# Altium schematic symbol library pporyzala-TI_Lighting.SchLib: 745 symbols (part 32 of 48)
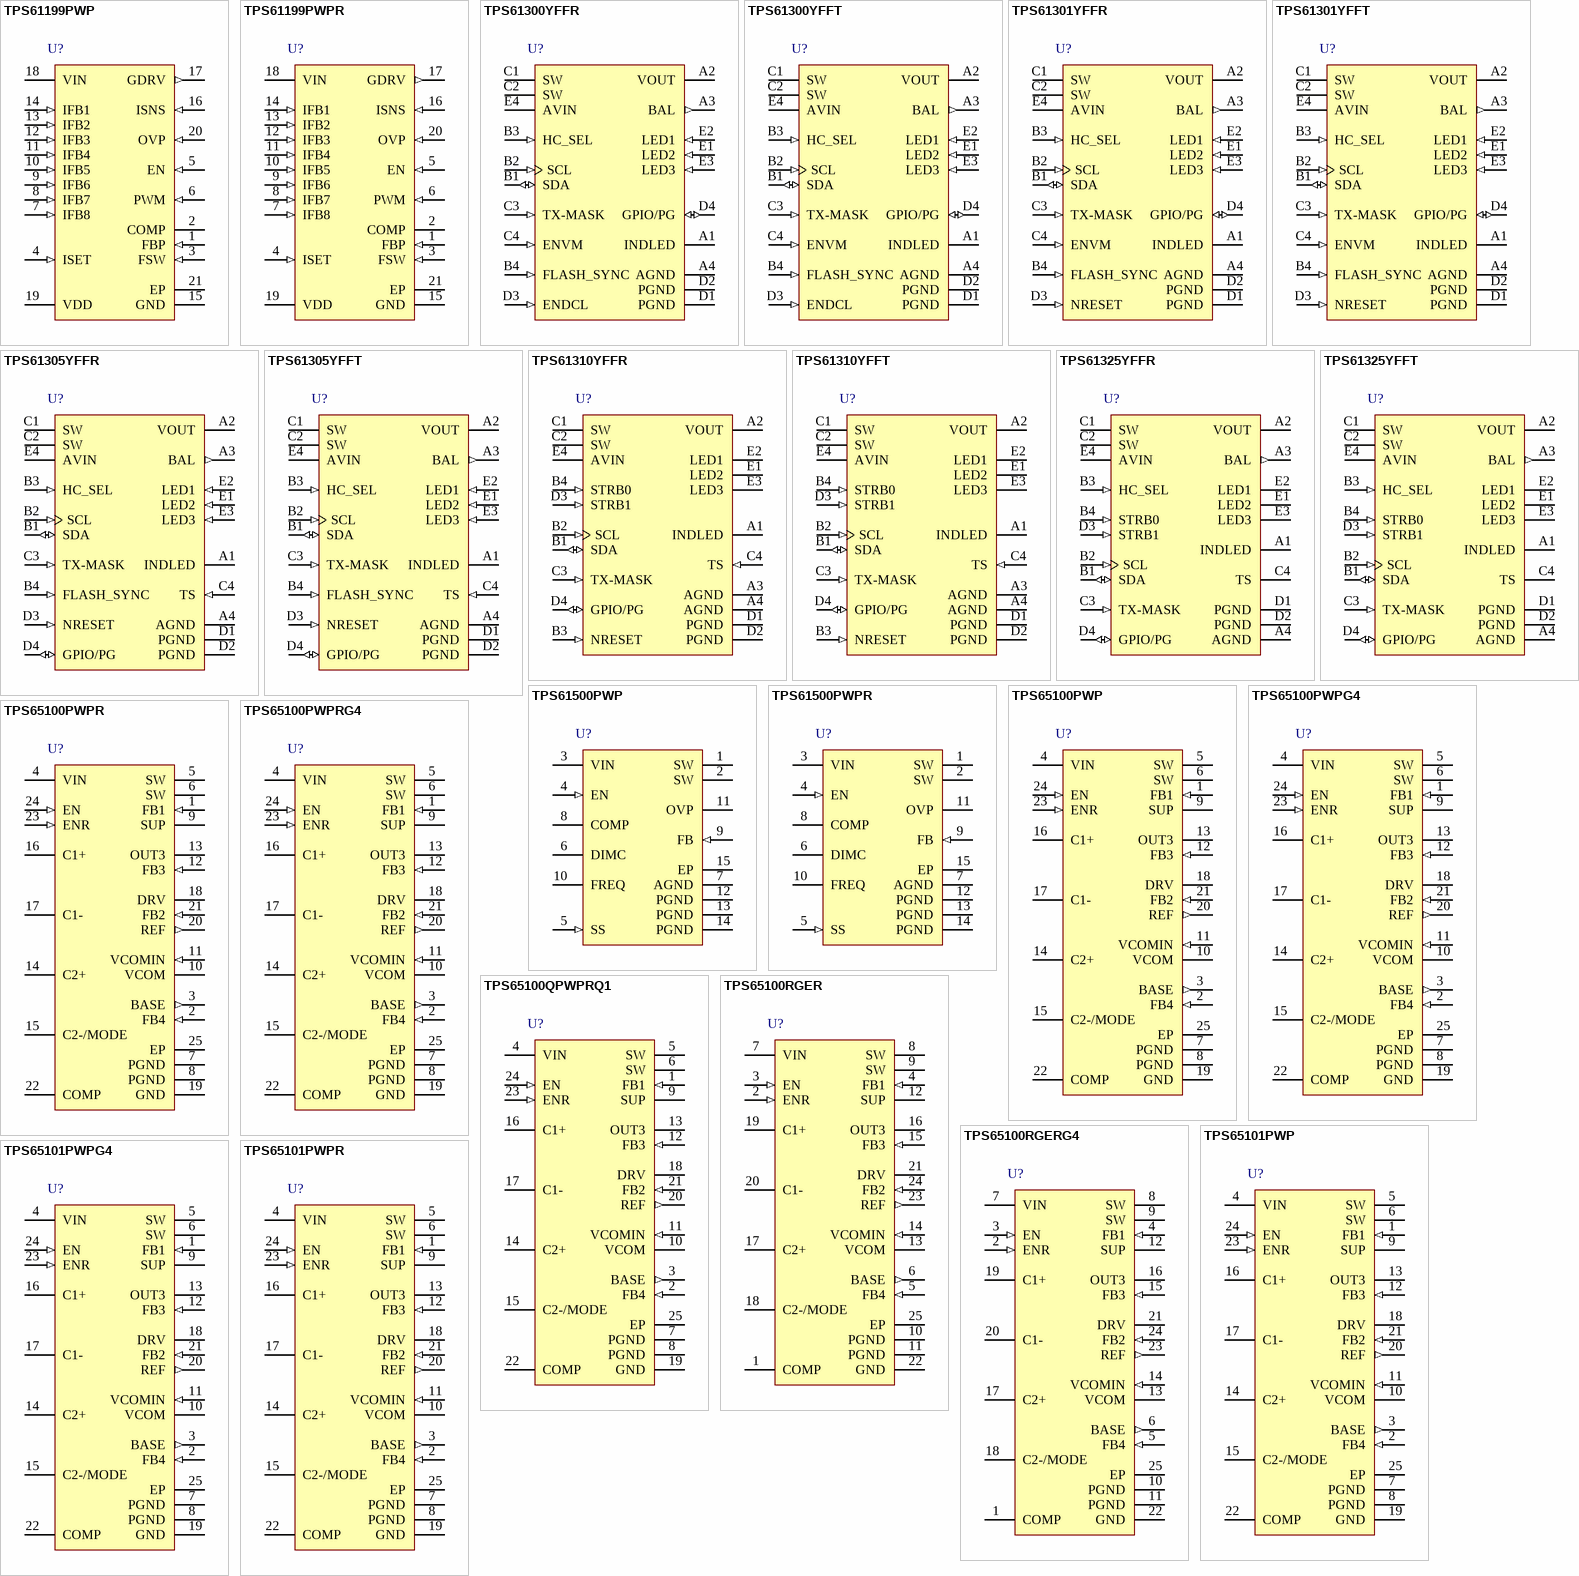
[diagram p62: symbols TPS61199PWP to TPS65101PWPR]

## TPS61310YFFT
designator U?
1.5 A Multiple LED Camera Flash Driver with I2C Compatible Interface, 2.5 to 5.5 V, -40 to 85 degC, 20-pin BGA (YFF20), Green (RoHS & no Sb/Br); Manufacturer: Texas Instruments; PartNumber: TPS61310YFFT; Dimming: TRUE; Iout(Max)(A): 1.5; Iq(Typ)(mA): 0.59; Rating: Catalog; SubFamily: White LED Driver; Switching Frequency(Max)(kHz): 2000; Topology: Boost; Vin(Max)(V): 5.5; Vin(Min)(V): 2.5; DatasheetVersion: SLVS978C; PackageVersion: 4207625-9/AJ; PackageReference: YFF20; PackageDescription: 20-Ball, Silicon Grid Array, Body Size 2.17 x 1.93 mm, Pitch 0.4 mm; Supplier 1: Digi-Key; Supplier Part Number 1: TPS61310YFFT-ND; Supplier 2: Newark; Supplier Part Number 2: 72R6649; Supplier 3: Mouser; Supplier Part Number 3: 595-TPS61310YFFT; Eco-Plan: Green (RoHS & no Sb/Br); Synchronous Rectification: TRUE; Mounting Technology: Surface Mount; ComponentLink1Description: Manufacturer URL; ComponentLink1URL: http://www.ti.com/; ComponentLink2Description: Datasheet; ComponentLink2URL: http://www.ti.com/general/docs/lit/getliterature.tsp?genericPartNumber=TPS61310&fileType=pdf; ComponentLink3Description: Package Specification; ComponentLink3URL: http://www.ti.com/lit/ds/symlink/tps61300.pdf
footprint TI-YFF20-2170X1928DE (BGA, 20-Balls, Body 2.17x1.928mm, Pitch 0.4mm)
pins: A1 INDLED (power) "This pin provides a constant current source to drive low VF LEDs. Connect to LED anode.", A2 VOUT (power) "This is the output voltage pin of the converter.", A3 AGND (power) "Analog ground.", A4 AGND (power) "Analog ground.", B1 SDA (io) "Serial interface address/data line. This pin must not be left floating and must be terminated.", B2 SCL (in) "Serial interface clock line. This pin must not be left floating and must be terminated.", B3 NRESET (in) "Master hardware reset input. NRESET = LOW: The device is forced in shutdown mode and the I2C control I/F and all internal control registers are reset. NRESET = HIGH: The device is operating normally under the control of the (See Datasheet)", B4 STRB0 (in) "LED1/2/3 enable logic input. This pin can be used to enable/disable the high-power LEDs connected to the device. STRB0 = LOW: LED1, LED2 and LED3 current regulators are turned off. STRB0 = HIGH: LED2, LED2 and LED3 current (See Datasheet)", C1 SW (power) "Inductor connection. Drain of the internal power MOSFET. Connect to the switched side of the inductor. SW is high impedance during shutdown.", C2 SW (power) "Inductor connection. Drain of the internal power MOSFET. Connect to the switched side of the inductor. SW is high impedance during shutdown.", C3 TX-MASK (in) "RF PA synchronization control input. Pulling this pin high turns the LED from flash to video light operation, thereby reducing almost instantaneously the peak current loading from the battery.", C4 TS (in) "NTC resistor connection. This pin can be used to monitor the LED temperature. Connect a 220k ohm NTC resistor from the TS input to ground. In case this functionality is not desired, the TS input should be tied to AVIN or (See Datasheet)", D1 PGND (power) "Power ground. Connect to AGND underneath IC.", D2 PGND (power) "Power ground. Connect to AGND underneath IC.", D3 STRB1 (in) "LED current level selection input. Pulling this input high disables the video light watchdog timer. STRB1 = LOW: flash mode is enabled. STRB1 = HIGH: video light mode is enabled.", D4 GPIO/PG (io) "This pin can either be configured as a general purpose input/output pin (GPIO) or either as an open-drain or a push-pull output to signal when the converters output voltage is within the regulation limits (PG). Per default, (See Datasheet)", E1 LED2 "LED return input (current sinks). This feedback pin regulates the LED current through the internal sense resistor by regulating the voltage across it. Connect to the cathode of the white LEDs.", E2 LED1 "LED return input (current sinks). This feedback pin regulates the LED current through the internal sense resistor by regulating the voltage across it. Connect to the cathode of the white LEDs.", E3 LED3 "LED return input (current sinks). This feedback pin regulates the LED current through the internal sense resistor by regulating the voltage across it. Connect to the cathode of the white LEDs.", E4 AVIN (power) "This is the input voltage pin of the device. Connect directly to the input bypass capacitor."

## TPS61325YFFR
designator U?
1.5 A / 4.1 A Multiple LED Camera Flash Driver with I2C Compatible Interface, 2.5 to 5.5 V, -40 to 85 degC, 20-pin BGA (YFF20), Green (RoHS & no Sb/Br); Manufacturer: Texas Instruments; PartNumber: TPS61325YFFR; Dimming: TRUE; Iq(Typ)(mA): 0.59; Rating: Catalog; SubFamily: White LED Driver; Switching Frequency(Max)(kHz): 1920; Topology: Boost; Vin(Max)(V): 5.5; Vin(Min)(V): 2.5; DatasheetVersion: SLVS977A; PackageVersion: 4207625-9/AJ; PackageReference: YFF20; PackageDescription: 20-Ball, Silicon Grid Array, Body Size 2.17 x 1.93 mm, Pitch 0.4 mm; Supplier 1: Digi-Key; Supplier Part Number 1: 296-27244-2-ND; Supplier 2: Digi-Key; Supplier Part Number 2: 296-27244-1-ND; Supplier 3: Digi-Key; Supplier Part Number 3: 296-27244-6-ND; Supplier 4: Newark; Supplier Part Number 4: 72R6650; Supplier 5: Mouser; Supplier Part Number 5: 595-TPS61325YFFR; Eco-Plan: Green (RoHS & no Sb/Br); Synchronous Rectification: TRUE; Mounting Technology: Surface Mount; ComponentLink1Description: Manufacturer URL; ComponentLink1URL: http://www.ti.com/; ComponentLink2Description: Datasheet; ComponentLink2URL: http://www.ti.com/general/docs/lit/getliterature.tsp?genericPartNumber=TPS61325&fileType=pdf; ComponentLink3Description: Package Specification; ComponentLink3URL: http://www.ti.com/lit/ds/symlink/tps61300.pdf
footprint TI-YFF20-2170X1928DE (BGA, 20-Balls, Body 2.17x1.928mm, Pitch 0.4mm)
pins: A1 INDLED (power) "This pin provides a constant current source to drive low VF LEDs. Connect to LED anode.", A2 VOUT (power) "This is the output voltage pin of the converter.", A3 BAL (out) "Balancing output for dual cells super-capacitor. In steady-state operation, this output compensates for leakage current mismatch between the cells", A4 AGND (power) "Analog ground", B1 SDA (io) "Serial interface address/data line. This pin must not be left floating and must be terminated.", B2 SCL (in) "Serial interface clock line. This pin must not be left floating and must be terminated", B3 HC_SEL (in) "Extended high-current mode selection input. This pin must not be left floating and must be terminated. HC_SEL = LOW: LED direct drive mode. The power stage is active and the maximum LED currents are defined as (See Datasheet)", B4 STRB0 (in) "LED1/2/3 enable logic input. This pin can be used to enable/disable the high-power LEDs connected to the device. STRB0 = LOW: LED1, LED2 and LED3 current regulators are turned-off. STRB0 = HIGH: LED2, LED2 and LED3 current (See Datasheet)", C1 SW (power) "Inductor connection. Drain of the internal power MOSFET. Connect to the switched side of the inductor. SW is high impedance during shutdown.", C2 SW (power) "Inductor connection. Drain of the internal power MOSFET. Connect to the switched side of the inductor. SW is high impedance during shutdown.", C3 TX-MASK (in) "RF PA synchronization control input.", C4 TS "NTC resistor connection. This pin can be used to monitor the LED temperature. Connect a 220k ohm NTC  resistor from the TS input to ground. In case this functionality is not desired, the TS input should be tied to AVIN or (See Datasheet)", D1 PGND (power) "Power ground. Connect to AGND underneath IC.", D2 PGND (power) "Power ground. Connect to AGND underneath IC.", D3 STRB1 (in) "LED current level selection input. Pulling this input high disables the DC light watchdog timer. STRB1 = LOW: Flash light mode is enabled. STRB1 = HIGH: DC light mode is enabled.", D4 GPIO/PG (io) "This pin can either be configured as a general purpose input/output pin (GPIO) or either as an open-drain or a push-pull output to signal when the converters output voltage is within the regulation limits (PG). Per default, (See Datasheet)", E1 LED2 "LED return input. This feedback pin regulates the LED current through the internal sense resistor by regulating the voltage across it. The regulation operates with typically 400mV (HC_SEL = L) or 400mV (HC_SEL = H) dropout (See Datasheet)", E2 LED1 "LED return input. This feedback pin regulates the LED current through the internal sense resistor by regulating the voltage across it. The regulation operates with typically 400mV (HC_SEL = L) or 400mV (HC_SEL = H) dropout (See Datasheet)", E3 LED3 "LED return input. This feedback pin regulates the LED current through the internal sense resistor by regulating the voltage across it. The regulation operates with typically 400mV (HC_SEL = L) or 400mV (HC_SEL = H) dropout (See Datasheet)", E4 AVIN (power) "This is the input voltage pin of the device. Connect directly to the input bypass capacitor."

## TPS61325YFFT
designator U?
1.5 A / 4.1 A Multiple LED Camera Flash Driver with I2C Compatible Interface, 2.5 to 5.5 V, -40 to 85 degC, 20-pin BGA (YFF20), Green (RoHS & no Sb/Br); Manufacturer: Texas Instruments; PartNumber: TPS61325YFFT; Dimming: TRUE; Iq(Typ)(mA): 0.59; Rating: Catalog; SubFamily: White LED Driver; Switching Frequency(Max)(kHz): 1920; Topology: Boost; Vin(Max)(V): 5.5; Vin(Min)(V): 2.5; DatasheetVersion: SLVS977A; PackageVersion: 4207625-9/AJ; PackageReference: YFF20; PackageDescription: 20-Ball, Silicon Grid Array, Body Size 2.17 x 1.93 mm, Pitch 0.4 mm; Supplier 1: Digi-Key; Supplier Part Number 1: TPS61325YFFT-ND; Supplier 2: Mouser; Supplier Part Number 2: 595-TPS61325YFFT; Eco-Plan: Green (RoHS & no Sb/Br); Synchronous Rectification: TRUE; Mounting Technology: Surface Mount; ComponentLink1Description: Manufacturer URL; ComponentLink1URL: http://www.ti.com/; ComponentLink2Description: Datasheet; ComponentLink2URL: http://www.ti.com/general/docs/lit/getliterature.tsp?genericPartNumber=TPS61325&fileType=pdf; ComponentLink3Description: Package Specification; ComponentLink3URL: http://www.ti.com/lit/ds/symlink/tps61300.pdf
footprint TI-YFF20-2170X1928DE (BGA, 20-Balls, Body 2.17x1.928mm, Pitch 0.4mm)
pins: A1 INDLED (power) "This pin provides a constant current source to drive low VF LEDs. Connect to LED anode.", A2 VOUT (power) "This is the output voltage pin of the converter.", A3 BAL (out) "Balancing output for dual cells super-capacitor. In steady-state operation, this output compensates for leakage current mismatch between the cells", A4 AGND (power) "Analog ground", B1 SDA (io) "Serial interface address/data line. This pin must not be left floating and must be terminated.", B2 SCL (in) "Serial interface clock line. This pin must not be left floating and must be terminated", B3 HC_SEL (in) "Extended high-current mode selection input. This pin must not be left floating and must be terminated. HC_SEL = LOW: LED direct drive mode. The power stage is active and the maximum LED currents are defined as (See Datasheet)", B4 STRB0 (in) "LED1/2/3 enable logic input. This pin can be used to enable/disable the high-power LEDs connected to the device. STRB0 = LOW: LED1, LED2 and LED3 current regulators are turned-off. STRB0 = HIGH: LED2, LED2 and LED3 current (See Datasheet)", C1 SW (power) "Inductor connection. Drain of the internal power MOSFET. Connect to the switched side of the inductor. SW is high impedance during shutdown.", C2 SW (power) "Inductor connection. Drain of the internal power MOSFET. Connect to the switched side of the inductor. SW is high impedance during shutdown.", C3 TX-MASK (in) "RF PA synchronization control input.", C4 TS "NTC resistor connection. This pin can be used to monitor the LED temperature. Connect a 220k ohm NTC  resistor from the TS input to ground. In case this functionality is not desired, the TS input should be tied to AVIN or (See Datasheet)", D1 PGND (power) "Power ground. Connect to AGND underneath IC.", D2 PGND (power) "Power ground. Connect to AGND underneath IC.", D3 STRB1 (in) "LED current level selection input. Pulling this input high disables the DC light watchdog timer. STRB1 = LOW: Flash light mode is enabled. STRB1 = HIGH: DC light mode is enabled.", D4 GPIO/PG (io) "This pin can either be configured as a general purpose input/output pin (GPIO) or either as an open-drain or a push-pull output to signal when the converters output voltage is within the regulation limits (PG). Per default, (See Datasheet)", E1 LED2 "LED return input. This feedback pin regulates the LED current through the internal sense resistor by regulating the voltage across it. The regulation operates with typically 400mV (HC_SEL = L) or 400mV (HC_SEL = H) dropout (See Datasheet)", E2 LED1 "LED return input. This feedback pin regulates the LED current through the internal sense resistor by regulating the voltage across it. The regulation operates with typically 400mV (HC_SEL = L) or 400mV (HC_SEL = H) dropout (See Datasheet)", E3 LED3 "LED return input. This feedback pin regulates the LED current through the internal sense resistor by regulating the voltage across it. The regulation operates with typically 400mV (HC_SEL = L) or 400mV (HC_SEL = H) dropout (See Datasheet)", E4 AVIN (power) "This is the input voltage pin of the device. Connect directly to the input bypass capacitor."

## TPS61500PWP
designator U?
High Brightness LED Driver with Integrated 3 A, 40 V Power Switch, 2.9 to 18 V, -40 to 85 degC, 14-pin SOP (PWP14), Green (RoHS & no Sb/Br); Manufacturer: Texas Instruments; PartNumber: TPS61500PWP; Dimming: TRUE; Iout(Max)(A): 3; Rating: Catalog; SubFamily: White LED Driver; Switching Frequency(Max)(kHz): 2200; Topology: Boost; Vin(Max)(V): 18; Vin(Min)(V): 2.9; DatasheetVersion: SLVS893B; PackageVersion: 4073225-2/I; PackageReference: PWP14-1830X2055TP; PackageDescription: 14-Pin Plastic Small Outline, Body 5 x 4.4 mm, Pitch 0.65 mm; Supplier 1: Digi-Key; Supplier Part Number 1: 296-34628-5-ND; Supplier 2: Farnell; Supplier Part Number 2: 1694433; Supplier 3: Newark; Supplier Part Number 3: 40P3875; Supplier 4: Mouser; Supplier Part Number 4: 595-TPS61500PWP; Eco-Plan: Green (RoHS & no Sb/Br); Iq(Typ)(mA): 3; Mounting Technology: Surface Mount; Code_JEDEC: MO-153; ComponentLink1Description: Manufacturer URL; ComponentLink1URL: http://www.ti.com/; ComponentLink2Description: Datasheet; ComponentLink2URL: http://www.ti.com/general/docs/lit/getliterature.tsp?genericPartNumber=TPS61500&fileType=pdf; ComponentLink3Description: Package Specification; ComponentLink3URL: http://www.ti.com/litv/pdf/mpds373
footprint TI-PWP14-1830X2055TP_N (SOP, 14-Leads, Body 5x4.4mm, Pitch 0.65mm, Thermal Pad 1.830X2.055mm, IPC Medium Density)
footprint TI-PWP14-1830X2055TP_L (SOP, 14-Leads, Body 5x4.4mm, Pitch 0.65mm, Thermal Pad 1.830X2.055mm, IPC High Density)
footprint TI-PWP14-1830X2055TP_M (SOP, 14-Leads, Body 5x4.4mm, Pitch 0.65mm, Thermal Pad 1.830X2.055mm, IPC Low Density)
pins: 1 SW (power) "This is the switching node of the IC. Connect SW to the switched side of the inductor", 2 SW (power) "This is the switching node of the IC. Connect SW to the switched side of the inductor", 3 VIN (power) "The input pin to the IC. Connect VIN to a supply voltage between 2.9V and 18V. It is acceptable for the voltage on the pin to be different from the boost power stage input for applications requiring voltage beyond VIN range.", 4 EN (in) "Enable pin. When the voltage of this pin falls below the enable threshold for more than 10ms, the IC turns off. This pin is also used for PWM signal input for LED brightness dimming", 5 SS (in) "Soft start programming pin. A capacitor between the SS pin and GND pin programs soft start timing. See application section for information on how to size the SS capacitor", 6 DIMC "Analog and PWM dimming method option pin. A capacitor connected to the pin to set the time constant of reference for analog dimming. Float this pin for PWM dimming.", 7 AGND (power) "Signal ground of the IC", 8 COMP "Output of the transconductance error amplifier. An external RC network is connected to this pin.", 9 FB (in) "Feedback pin for positive voltage regulation. A resistor connects to this pin to program LED current", 10 FREQ "Switch frequency program pin. An external resistor is connected to this pin. See application section for information on how to size the FREQ resistor.", 11 OVP "Over voltage protection for LED driver. The voltage is 1.229. Using a resistor divider can program the threshold of OVP", 12 PGND (power) "Power ground of the IC. It is connected to the source of the PWM switch.", 13 PGND (power) "Power ground of the IC. It is connected to the source of the PWM switch.", 14 PGND (power) "Power ground of the IC. It is connected to the source of the PWM switch.", 15 EP (power) "The thermal pad should be soldered to the analog ground. If possible, use thermal via to connect to top and internal ground plane layers for ideal power dissipation."

## TPS61500PWPR
designator U?
High Brightness LED Driver with Integrated 3 A, 40 V Power Switch, 2.9 to 18 V, -40 to 85 degC, 14-pin SOP (PWP14), Green (RoHS & no Sb/Br); Manufacturer: Texas Instruments; PartNumber: TPS61500PWPR; Dimming: TRUE; Iout(Max)(A): 3; Rating: Catalog; SubFamily: White LED Driver; Switching Frequency(Max)(kHz): 2200; Topology: Boost; Vin(Max)(V): 18; Vin(Min)(V): 2.9; DatasheetVersion: SLVS893B; PackageVersion: 4073225-2/I; PackageReference: PWP14-1830X2055TP; PackageDescription: 14-Pin Plastic Small Outline, Body 5 x 4.4 mm, Pitch 0.65 mm; Supplier 1: Digi-Key; Supplier Part Number 1: 296-24014-2-ND; Supplier 2: Digi-Key; Supplier Part Number 2: 296-24014-1-ND; Supplier 3: Digi-Key; Supplier Part Number 3: 296-24014-6-ND; Supplier 4: Newark; Supplier Part Number 4: 45P8286; Supplier 5: Mouser; Supplier Part Number 5: 595-TPS61500PWPR; Eco-Plan: Green (RoHS & no Sb/Br); Iq(Typ)(mA): 3; Mounting Technology: Surface Mount; Code_JEDEC: MO-153; ComponentLink1Description: Manufacturer URL; ComponentLink1URL: http://www.ti.com/; ComponentLink2Description: Datasheet; ComponentLink2URL: http://www.ti.com/general/docs/lit/getliterature.tsp?genericPartNumber=TPS61500&fileType=pdf; ComponentLink3Description: Package Specification; ComponentLink3URL: http://www.ti.com/litv/pdf/mpds373
footprint TI-PWP14-1830X2055TP_N (SOP, 14-Leads, Body 5x4.4mm, Pitch 0.65mm, Thermal Pad 1.830X2.055mm, IPC Medium Density)
footprint TI-PWP14-1830X2055TP_L (SOP, 14-Leads, Body 5x4.4mm, Pitch 0.65mm, Thermal Pad 1.830X2.055mm, IPC High Density)
footprint TI-PWP14-1830X2055TP_M (SOP, 14-Leads, Body 5x4.4mm, Pitch 0.65mm, Thermal Pad 1.830X2.055mm, IPC Low Density)
pins: 1 SW (power) "This is the switching node of the IC. Connect SW to the switched side of the inductor", 2 SW (power) "This is the switching node of the IC. Connect SW to the switched side of the inductor", 3 VIN (power) "The input pin to the IC. Connect VIN to a supply voltage between 2.9V and 18V. It is acceptable for the voltage on the pin to be different from the boost power stage input for applications requiring voltage beyond VIN range.", 4 EN (in) "Enable pin. When the voltage of this pin falls below the enable threshold for more than 10ms, the IC turns off. This pin is also used for PWM signal input for LED brightness dimming", 5 SS (in) "Soft start programming pin. A capacitor between the SS pin and GND pin programs soft start timing. See application section for information on how to size the SS capacitor", 6 DIMC "Analog and PWM dimming method option pin. A capacitor connected to the pin to set the time constant of reference for analog dimming. Float this pin for PWM dimming.", 7 AGND (power) "Signal ground of the IC", 8 COMP "Output of the transconductance error amplifier. An external RC network is connected to this pin.", 9 FB (in) "Feedback pin for positive voltage regulation. A resistor connects to this pin to program LED current", 10 FREQ "Switch frequency program pin. An external resistor is connected to this pin. See application section for information on how to size the FREQ resistor.", 11 OVP "Over voltage protection for LED driver. The voltage is 1.229. Using a resistor divider can program the threshold of OVP", 12 PGND (power) "Power ground of the IC. It is connected to the source of the PWM switch.", 13 PGND (power) "Power ground of the IC. It is connected to the source of the PWM switch.", 14 PGND (power) "Power ground of the IC. It is connected to the source of the PWM switch.", 15 EP (power) "The thermal pad should be soldered to the analog ground. If possible, use thermal via to connect to top and internal ground plane layers for ideal power dissipation."

## TPS65100PWP
designator U?
4-Channel LCD Bias with Fully Integrated Postive Charge Pump, 3.3 V LDO Controller, 2.7 to 5.8 V, -40 to 85 degC, 24-pin SOP (PWP24), Green (RoHS & no Sb/Br); Manufacturer: Texas Instruments; PartNumber: TPS65100PWP; Iout(Max)(A): 0.02; Iq(Typ)(mA): 0.7; Rating: Catalog; SubFamily: LCD/OLED Display Bias Solutions; Switching Frequency(Typ)(kHz): 1600; Topology: Boost, Inverting Buck/Boost; Vin(Max)(V): 5.8; Vin(Min)(V): 2.7; DatasheetVersion: SLVS496C; PackageVersion: 4073225-5/I; PackageReference: PWP24-4420X1950TP; PackageDescription: 24-Lead, Plastic Small Outline, Body Size 4.4 x 7.8 mm, Pitch 0.65 mm; Supplier 1: Digi-Key; Supplier Part Number 1: TPS65100PWP-ND; Supplier 2: Newark; Supplier Part Number 2: 87H2914; Supplier 3: Mouser; Supplier Part Number 3: 595-TPS65100PWP; Eco-Plan: Green (RoHS & no Sb/Br); Mounting Technology: Surface Mount; Code_JEDEC: MO-153; ComponentLink1Description: Manufacturer URL; ComponentLink1URL: http://www.ti.com/; ComponentLink2Description: Datasheet; ComponentLink2URL: http://www.ti.com/general/docs/lit/getliterature.tsp?genericPartNumber=TPS65100&fileType=pdf; ComponentLink3Description: Package Specification; ComponentLink3URL: http://www.ti.com/lit/ds/symlink/tps65101.pdf
footprint TI-PWP24-4420X1950TP_N (SOP, 24-Leads, Body 7.8x4.4mm, Pitch 0.65mm, Thermal Pad 4.42x1.95mm, IPC Medium Density)
footprint TI-PWP24-4420X1950TP_L (SOP, 24-Leads, Body 7.8x4.4mm, Pitch 0.65mm, Thermal Pad 4.42x1.95mm, IPC High Density)
footprint TI-PWP24-4420X1950TP_M (SOP, 24-Leads, Body 7.8x4.4mm, Pitch 0.65mm, Thermal Pad 4.42x1.95mm, IPC Low Density)
pins: 1 FB1 (in) "Feedback pin of the boost converter", 2 FB4 (in) "Feedback pin of the linear regulator controller. The linear regulator controller is set to a fixed output voltage of 3.3 V or 3 V depending on the version.", 3 BASE (out) "Base drive output for the external transistor", 4 VIN (power) "Input voltage pin of the device", 5 SW (power) "Switch pin of the boost converter", 6 SW (power) "Switch pin of the boost converter", 7 PGND (power) "Power ground", 8 PGND (power) "Power ground", 9 SUP (power) "Supply pin of the positive, negative charge pump, boost converter gate drive circuit, and VCOM buffer. This pin should be connected to the output of the main boost converter and cannot be connected to any other voltage (See Datasheet)", 10 VCOM (power) "VCOM buffer output", 11 VCOMIN (in) "Positive input terminal of the VCOM buffer. When the VCOM buffer is not used, this terminal can be connected to GND to reduce the overall quiescent current of the IC.", 12 FB3 (in) "Feedback pin of positive charge pump", 13 OUT3 (power) "Positive charge pump output", 14 C2+ "Positive terminal for the charge pump flying capacitor. If the device runs in voltage doubler mode, this pin should be left open", 15 C2-/MODE, 16 C1+ "Positive terminal of the charge pump flying capacitor", 17 C1- "Negative terminal of the charge pump flying capacitor", 18 DRV (power) "External charge pump driver", 19 GND (power) "Ground", 20 REF (out) "Internal reference output typically 1.23 V", 21 FB2 (in) "Feedback pin of negative charge pump", 22 COMP "Compensation pin for the main boost converter. A small capacitor is connected to this pin.", 23 ENR (in) "Enable pin of the linear regulator controller. This pin should be terminated and not be left floating. Logic high enables the regulator and a logic low puts the regulator in shutdown.", 24 EN (in) "Enable pin of the device. This pin should be terminated and not be left floating. A logic high enables the device and a logic low shuts down the device.", 25 EP (power) "The PowerPad or exposed thermal die needs to be connected to the power ground pins (PGND)"

## TPS65100PWPG4
designator U?
4-Channel LCD Bias with Fully Integrated Postive Charge Pump, 3.3 V LDO Controller, 2.7 to 5.8 V, -40 to 85 degC, 24-pin SOP (PWP24), Green (RoHS & no Sb/Br); Manufacturer: Texas Instruments; PartNumber: TPS65100PWPG4; Iout(Max)(A): 0.02; Iq(Typ)(mA): 0.7; Rating: Catalog; SubFamily: LCD/OLED Display Bias Solutions; Switching Frequency(Typ)(kHz): 1600; Topology: Boost, Inverting Buck/Boost; Vin(Max)(V): 5.8; Vin(Min)(V): 2.7; DatasheetVersion: SLVS496C; PackageVersion: 4073225-5/I; PackageReference: PWP24-4420X1950TP; PackageDescription: 24-Lead, Plastic Small Outline, Body Size 4.4 x 7.8 mm, Pitch 0.65 mm; Supplier 1: Digi-Key; Supplier Part Number 1: TPS65100PWPG4-ND; Supplier 2: Newark; Supplier Part Number 2: 28M7823; Supplier 3: Mouser; Supplier Part Number 3: 595-TPS65100PWPG4; Eco-Plan: Green (RoHS & no Sb/Br); Mounting Technology: Surface Mount; Code_JEDEC: MO-153; ComponentLink1Description: Manufacturer URL; ComponentLink1URL: http://www.ti.com/; ComponentLink2Description: Datasheet; ComponentLink2URL: http://www.ti.com/general/docs/lit/getliterature.tsp?genericPartNumber=TPS65100&fileType=pdf; ComponentLink3Description: Package Specification; ComponentLink3URL: http://www.ti.com/lit/ds/symlink/tps65101.pdf
footprint TI-PWP24-4420X1950TP_N (SOP, 24-Leads, Body 7.8x4.4mm, Pitch 0.65mm, Thermal Pad 4.42x1.95mm, IPC Medium Density)
footprint TI-PWP24-4420X1950TP_L (SOP, 24-Leads, Body 7.8x4.4mm, Pitch 0.65mm, Thermal Pad 4.42x1.95mm, IPC High Density)
footprint TI-PWP24-4420X1950TP_M (SOP, 24-Leads, Body 7.8x4.4mm, Pitch 0.65mm, Thermal Pad 4.42x1.95mm, IPC Low Density)
pins: 1 FB1 (in) "Feedback pin of the boost converter", 2 FB4 (in) "Feedback pin of the linear regulator controller. The linear regulator controller is set to a fixed output voltage of 3.3 V or 3 V depending on the version.", 3 BASE (out) "Base drive output for the external transistor", 4 VIN (power) "Input voltage pin of the device", 5 SW (power) "Switch pin of the boost converter", 6 SW (power) "Switch pin of the boost converter", 7 PGND (power) "Power ground", 8 PGND (power) "Power ground", 9 SUP (power) "Supply pin of the positive, negative charge pump, boost converter gate drive circuit, and VCOM buffer. This pin should be connected to the output of the main boost converter and cannot be connected to any other voltage (See Datasheet)", 10 VCOM (power) "VCOM buffer output", 11 VCOMIN (in) "Positive input terminal of the VCOM buffer. When the VCOM buffer is not used, this terminal can be connected to GND to reduce the overall quiescent current of the IC.", 12 FB3 (in) "Feedback pin of positive charge pump", 13 OUT3 (power) "Positive charge pump output", 14 C2+ "Positive terminal for the charge pump flying capacitor. If the device runs in voltage doubler mode, this pin should be left open", 15 C2-/MODE, 16 C1+ "Positive terminal of the charge pump flying capacitor", 17 C1- "Negative terminal of the charge pump flying capacitor", 18 DRV (power) "External charge pump driver", 19 GND (power) "Ground", 20 REF (out) "Internal reference output typically 1.23 V", 21 FB2 (in) "Feedback pin of negative charge pump", 22 COMP "Compensation pin for the main boost converter. A small capacitor is connected to this pin.", 23 ENR (in) "Enable pin of the linear regulator controller. This pin should be terminated and not be left floating. Logic high enables the regulator and a logic low puts the regulator in shutdown.", 24 EN (in) "Enable pin of the device. This pin should be terminated and not be left floating. A logic high enables the device and a logic low shuts down the device.", 25 EP (power) "The PowerPad or exposed thermal die needs to be connected to the power ground pins (PGND)"

## TPS65100PWPR
designator U?
4-Channel LCD Bias with Fully Integrated Postive Charge Pump, 3.3 V LDO Controller, 2.7 to 5.8 V, -40 to 85 degC, 24-pin SOP (PWP24), Green (RoHS & no Sb/Br); Manufacturer: Texas Instruments; PartNumber: TPS65100PWPR; Iout(Max)(A): 0.02; Iq(Typ)(mA): 0.7; Rating: Catalog; SubFamily: LCD/OLED Display Bias Solutions; Switching Frequency(Typ)(kHz): 1600; Topology: Boost, Inverting Buck/Boost; Vin(Max)(V): 5.8; Vin(Min)(V): 2.7; DatasheetVersion: SLVS496C; PackageVersion: 4073225-5/I; PackageReference: PWP24-4420X1950TP; PackageDescription: 24-Lead, Plastic Small Outline, Body Size 4.4 x 7.8 mm, Pitch 0.65 mm; Supplier 1: Digi-Key; Supplier Part Number 1: 296-17082-2-ND; Supplier 2: Digi-Key; Supplier Part Number 2: 296-17082-1-ND; Supplier 3: Digi-Key; Supplier Part Number 3: 296-17082-6-ND; Supplier 4: Newark; Supplier Part Number 4: 87H2915; Supplier 5: Mouser; Supplier Part Number 5: 595-TPS65100PWPR; Eco-Plan: Green (RoHS & no Sb/Br); Mounting Technology: Surface Mount; Code_JEDEC: MO-153; ComponentLink1Description: Manufacturer URL; ComponentLink1URL: http://www.ti.com/; ComponentLink2Description: Datasheet; ComponentLink2URL: http://www.ti.com/general/docs/lit/getliterature.tsp?genericPartNumber=TPS65100&fileType=pdf; ComponentLink3Description: Package Specification; ComponentLink3URL: http://www.ti.com/lit/ds/symlink/tps65101.pdf
footprint TI-PWP24-4420X1950TP_N (SOP, 24-Leads, Body 7.8x4.4mm, Pitch 0.65mm, Thermal Pad 4.42x1.95mm, IPC Medium Density)
footprint TI-PWP24-4420X1950TP_L (SOP, 24-Leads, Body 7.8x4.4mm, Pitch 0.65mm, Thermal Pad 4.42x1.95mm, IPC High Density)
footprint TI-PWP24-4420X1950TP_M (SOP, 24-Leads, Body 7.8x4.4mm, Pitch 0.65mm, Thermal Pad 4.42x1.95mm, IPC Low Density)
pins: 1 FB1 (in) "Feedback pin of the boost converter", 2 FB4 (in) "Feedback pin of the linear regulator controller. The linear regulator controller is set to a fixed output voltage of 3.3 V or 3 V depending on the version.", 3 BASE (out) "Base drive output for the external transistor", 4 VIN (power) "Input voltage pin of the device", 5 SW (power) "Switch pin of the boost converter", 6 SW (power) "Switch pin of the boost converter", 7 PGND (power) "Power ground", 8 PGND (power) "Power ground", 9 SUP (power) "Supply pin of the positive, negative charge pump, boost converter gate drive circuit, and VCOM buffer. This pin should be connected to the output of the main boost converter and cannot be connected to any other voltage (See Datasheet)", 10 VCOM (power) "VCOM buffer output", 11 VCOMIN (in) "Positive input terminal of the VCOM buffer. When the VCOM buffer is not used, this terminal can be connected to GND to reduce the overall quiescent current of the IC.", 12 FB3 (in) "Feedback pin of positive charge pump", 13 OUT3 (power) "Positive charge pump output", 14 C2+ "Positive terminal for the charge pump flying capacitor. If the device runs in voltage doubler mode, this pin should be left open", 15 C2-/MODE, 16 C1+ "Positive terminal of the charge pump flying capacitor", 17 C1- "Negative terminal of the charge pump flying capacitor", 18 DRV (power) "External charge pump driver", 19 GND (power) "Ground", 20 REF (out) "Internal reference output typically 1.23 V", 21 FB2 (in) "Feedback pin of negative charge pump", 22 COMP "Compensation pin for the main boost converter. A small capacitor is connected to this pin.", 23 ENR (in) "Enable pin of the linear regulator controller. This pin should be terminated and not be left floating. Logic high enables the regulator and a logic low puts the regulator in shutdown.", 24 EN (in) "Enable pin of the device. This pin should be terminated and not be left floating. A logic high enables the device and a logic low shuts down the device.", 25 EP (power) "The PowerPad or exposed thermal die needs to be connected to the power ground pins (PGND)"

## TPS65100PWPRG4
designator U?
4-Channel LCD Bias with Fully Integrated Postive Charge Pump, 3.3 V LDO Controller, 2.7 to 5.8 V, -40 to 85 degC, 24-pin SOP (PWP24), Green (RoHS & no Sb/Br); Manufacturer: Texas Instruments; PartNumber: TPS65100PWPRG4; Iout(Max)(A): 0.02; Iq(Typ)(mA): 0.7; Rating: Catalog; SubFamily: LCD/OLED Display Bias Solutions; Switching Frequency(Typ)(kHz): 1600; Topology: Boost, Inverting Buck/Boost; Vin(Max)(V): 5.8; Vin(Min)(V): 2.7; DatasheetVersion: SLVS496C; PackageVersion: 4073225-5/I; PackageReference: PWP24-4420X1950TP; PackageDescription: 24-Lead, Plastic Small Outline, Body Size 4.4 x 7.8 mm, Pitch 0.65 mm; Supplier 1: Digi-Key; Supplier Part Number 1: TPS65100PWPRG4-ND; Supplier 2: Mouser; Supplier Part Number 2: 595-TPS65100PWPRG4; Eco-Plan: Green (RoHS & no Sb/Br); Mounting Technology: Surface Mount; Code_JEDEC: MO-153; ComponentLink1Description: Manufacturer URL; ComponentLink1URL: http://www.ti.com/; ComponentLink2Description: Datasheet; ComponentLink2URL: http://www.ti.com/general/docs/lit/getliterature.tsp?genericPartNumber=TPS65100&fileType=pdf; ComponentLink3Description: Package Specification; ComponentLink3URL: http://www.ti.com/lit/ds/symlink/tps65101.pdf
footprint TI-PWP24-4420X1950TP_N (SOP, 24-Leads, Body 7.8x4.4mm, Pitch 0.65mm, Thermal Pad 4.42x1.95mm, IPC Medium Density)
footprint TI-PWP24-4420X1950TP_L (SOP, 24-Leads, Body 7.8x4.4mm, Pitch 0.65mm, Thermal Pad 4.42x1.95mm, IPC High Density)
footprint TI-PWP24-4420X1950TP_M (SOP, 24-Leads, Body 7.8x4.4mm, Pitch 0.65mm, Thermal Pad 4.42x1.95mm, IPC Low Density)
pins: 1 FB1 (in) "Feedback pin of the boost converter", 2 FB4 (in) "Feedback pin of the linear regulator controller. The linear regulator controller is set to a fixed output voltage of 3.3 V or 3 V depending on the version.", 3 BASE (out) "Base drive output for the external transistor", 4 VIN (power) "Input voltage pin of the device", 5 SW (power) "Switch pin of the boost converter", 6 SW (power) "Switch pin of the boost converter", 7 PGND (power) "Power ground", 8 PGND (power) "Power ground", 9 SUP (power) "Supply pin of the positive, negative charge pump, boost converter gate drive circuit, and VCOM buffer. This pin should be connected to the output of the main boost converter and cannot be connected to any other voltage (See Datasheet)", 10 VCOM (power) "VCOM buffer output", 11 VCOMIN (in) "Positive input terminal of the VCOM buffer. When the VCOM buffer is not used, this terminal can be connected to GND to reduce the overall quiescent current of the IC.", 12 FB3 (in) "Feedback pin of positive charge pump", 13 OUT3 (power) "Positive charge pump output", 14 C2+ "Positive terminal for the charge pump flying capacitor. If the device runs in voltage doubler mode, this pin should be left open", 15 C2-/MODE, 16 C1+ "Positive terminal of the charge pump flying capacitor", 17 C1- "Negative terminal of the charge pump flying capacitor", 18 DRV (power) "External charge pump driver", 19 GND (power) "Ground", 20 REF (out) "Internal reference output typically 1.23 V", 21 FB2 (in) "Feedback pin of negative charge pump", 22 COMP "Compensation pin for the main boost converter. A small capacitor is connected to this pin.", 23 ENR (in) "Enable pin of the linear regulator controller. This pin should be terminated and not be left floating. Logic high enables the regulator and a logic low puts the regulator in shutdown.", 24 EN (in) "Enable pin of the device. This pin should be terminated and not be left floating. A logic high enables the device and a logic low shuts down the device.", 25 EP (power) "The PowerPad or exposed thermal die needs to be connected to the power ground pins (PGND)"

## TPS65100QPWPRQ1
designator U?
Dimmable Quasi-Resonant LED Lighting Controller, 9 to 21.5 V, -40 to 140 degC, 16-pin SOP (PW16), Green (RoHS & no Sb/Br); Manufacturer: Texas Instruments; PartNumber: TPS65100QPWPRQ1; Iout(Max)(A): 0.35; Iq(Typ)(mA): 0.75; Rating: Automotive; SubFamily: LCD/OLED Display Bias Solutions; Switching Frequency(Typ)(kHz): 1600; Synchronous Rectification: TRUE; Topology: Boost, Inverting Buck/Boost; Vin(Max)(V): 5.8; Vin(Min)(V): 2.7; DatasheetVersion: SLVS849A; PackageVersion: 4073225-5/I; PackageReference: PWP24-4420X1950TP; PackageDescription: 24-Lead, Plastic Small Outline, Body Size 4.4 x 7.8 mm, Pitch 0.65 mm; Supplier 1: Digi-Key; Supplier Part Number 1: 296-23726-2-ND; Supplier 2: Digi-Key; Supplier Part Number 2: 296-23726-1-ND; Supplier 3: Digi-Key; Supplier Part Number 3: 296-23726-6-ND; Supplier 4: Newark; Supplier Part Number 4: 12P8046; Supplier 5: Mouser; Supplier Part Number 5: 595-TPS65100QPWPRQ1; Eco-Plan: Green (RoHS & no Sb/Br); Mounting Technology: Surface Mount; Code_JEDEC: MO-153; ComponentLink1Description: Manufacturer URL; ComponentLink1URL: http://www.ti.com/; ComponentLink2Description: Datasheet; ComponentLink2URL: http://www.ti.com/general/docs/lit/getliterature.tsp?genericPartNumber=TPS65100-Q1&fileType=pdf; ComponentLink3Description: Package Specification; ComponentLink3URL: http://www.ti.com/lit/ds/symlink/tps65101.pdf
footprint TI-PWP24-4420X1950TP_N (SOP, 24-Leads, Body 7.8x4.4mm, Pitch 0.65mm, Thermal Pad 4.42x1.95mm, IPC Medium Density)
footprint TI-PWP24-4420X1950TP_L (SOP, 24-Leads, Body 7.8x4.4mm, Pitch 0.65mm, Thermal Pad 4.42x1.95mm, IPC High Density)
footprint TI-PWP24-4420X1950TP_M (SOP, 24-Leads, Body 7.8x4.4mm, Pitch 0.65mm, Thermal Pad 4.42x1.95mm, IPC Low Density)
pins: 1 FB1 (in) "Feedback pin of the boost converter", 2 FB4 (in) "Feedback pin of the linear regulator controller. The linear regulator controller is set to a fixed output voltage of 3.3 V or 3 V depending on the version.", 3 BASE (out) "Base drive output for the external transistor", 4 VIN (power) "Input voltage pin of the device", 5 SW (power) "Switch pin of the boost converter", 6 SW (power) "Switch pin of the boost converter", 7 PGND (power) "Power ground", 8 PGND (power) "Power ground", 9 SUP (power) "Supply pin of the positive, negative charge pump, boost converter gate drive circuit, and VCOM buffer. This pin should be connected to the output of the main boost converter and cannot be connected to any other voltage (See Datasheet)", 10 VCOM (power) "VCOM buffer output", 11 VCOMIN (in) "Positive input terminal of the VCOM buffer. When the VCOM buffer is not used, this terminal can be connected to GND to reduce the overall quiescent current of the IC.", 12 FB3 (in) "Feedback pin of positive charge pump", 13 OUT3 (power) "Positive charge pump output", 14 C2+ "Positive terminal for the charge pump flying capacitor. If the device runs in voltage doubler mode, this pin should be left open.", 15 C2-/MODE "Negative terminal of the charge pump flying capacitor and charge pump MODE pin. If the flying capacitor is connected to this pin, the converter operates in a voltage tripler mode. If the charge pump needs to operate in a (See Datasheet)", 16 C1+ "Positive terminal of the charge pump flying capacitor", 17 C1- "Negative terminal of the charge pump flying capacitor", 18 DRV (power) "External charge pump driver", 19 GND (power) "Ground", 20 REF (out) "Internal reference output typically 1.23 V", 21 FB2 (in) "Feedback pin of negative charge pump", 22 COMP "Compensation pin for the main boost converter. A small capacitor is connected to this pin.", 23 ENR (in) "Enable pin of the linear regulator controller. This pin should be terminated and not be left floating. Logic high enables the regulator and a logic low puts the regulator in shutdown.", 24 EN (in) "Enable pin of the device. This pin should be terminated and not be left floating. A logic high enables the device and a logic low shuts down the device.", 25 EP (power) "The PowerPad or exposed thermal die needs to be connected to the power ground pins (PGND)"

## TPS65100RGER
designator U?
4-Channel LCD Bias with Fully Integrated Postive Charge Pump, 3.3 V LDO Controller, 2.7 to 5.8 V, -40 to 85 degC, 24-pin QFN (RGE24), Green (RoHS & no Sb/Br); Manufacturer: Texas Instruments; PartNumber: TPS65100RGER; Iout(Max)(A): 0.02; Iq(Typ)(mA): 0.7; Rating: Catalog; SubFamily: LCD/OLED Display Bias Solutions; Switching Frequency(Typ)(kHz): 1600; Topology: Boost, Inverting Buck/Boost; Vin(Max)(V): 5.8; Vin(Min)(V): 2.7; DatasheetVersion: SLVS496C; PackageVersion: 4204104/G; PackageReference: RGE24-2450X2450TP; PackageDescription: 24-Pin Plastic Flat Pack, Body 4 x 4 mm, 0.5 mm Pitch; Supplier 1: Digi-Key; Supplier Part Number 1: 296-18991-2-ND; Supplier 2: Digi-Key; Supplier Part Number 2: 296-18991-1-ND; Supplier 3: Digi-Key; Supplier Part Number 3: 296-18991-6-ND; Supplier 4: Newark; Supplier Part Number 4: 87H2916; Supplier 5: Mouser; Supplier Part Number 5: 595-TPS65100RGER; Eco-Plan: Green (RoHS & no Sb/Br); Mounting Technology: Surface Mount; Code_JEDEC: MO-220; ComponentLink1Description: Manufacturer URL; ComponentLink1URL: http://www.ti.com/; ComponentLink2Description: Datasheet; ComponentLink2URL: http://www.ti.com/general/docs/lit/getliterature.tsp?genericPartNumber=TPS65100&fileType=pdf; ComponentLink3Description: Package Specification; ComponentLink3URL: http://www.ti.com/litv/pdf/mpqf124f
footprint TI-RGE24-2450X2450TP_V (QFN, 24-Leads, Body 4x4mm, Pitch 0.5mm, Thermal Pad 2.45x2.45mm)
pins: 1 COMP "Compensation pin for the main boost converter. A small capacitor is connected to this pin.", 2 ENR (in) "Enable pin of the linear regulator controller. This pin should be terminated and not be left floating. Logic high enables the regulator and a logic low puts the regulator in shutdown.", 3 EN (in) "Enable pin of the device.This pin should be terminated and be left floating.A logic high enables the device and a logic low shuts down the device.", 4 FB1 (in) "Feedback pin of the boost converter", 5 FB4 (in) "Feedback pin the of the linear regulator controller .The linear regulator controller is set to a fixed output voltage of 3.3 V of 3 V depending on the version.", 6 BASE (out) "Base drive output for the external transistor", 7 VIN (power) "Input voltage pin of the device.", 8 SW (power) "Switch pin of the boost converter", 9 SW (power) "Switch pin of the boost converter", 10 PGND (power) "Power ground", 11 PGND (power) "Power ground", 12 SUP (power) "Supply pin of the positive, negative charge pump, boost converter, and gate drive circuit.This pin needs to be connected to the output of the main boots converter and cannot be onnected to any other voltage source.For (See Datasheet)", 13 VCOM (power) "VCOM buffer output", 14 VCOMIN (in) "Positive input terminal of the VCOM buffer.When the VCOM buffer is not used ,this terminal can be connected toGND to reduce the overall quiescent current of the IC", 15 FB3 (in) "Feedback pin of positive charge pump", 16 OUT3 (power) "Positive charge pump output", 17 C2+ "Positive terminal for the charge pump flying capacitor.If the device runs in voltage doubler mode, this pin should be left open.", 18 C2-/MODE "Negative terminal of the charge pump flying capacitor and charge pump MODE pin. If the flying capacitor is connected to this pin, the concerter operates in a voltage tripler mode.if the charge pump needs to operate in a (See Datasheet)", 19 C1+ "Positive terminal of the charge pump flying capacitor", 20 C1- "Negative terminal of the charge pump flying capacitor", 21 DRV (power) "External charge pump driver", 22 GND (power) "Ground", 23 REF (out) "Internal reference output typically 1.23 V", 24 FB2 (in) "Feedback pin of negative charge pump", 25 EP (power) "The PowerPAD or exposed thermal die needs to be connected to power ground pins (PGND)"

## TPS65100RGERG4
designator U?
4-Channel LCD Bias with Fully Integrated Postive Charge Pump, 3.3 V LDO Controller, 2.7 to 5.8 V, -40 to 85 degC, 24-pin QFN (RGE24), Green (RoHS & no Sb/Br); Manufacturer: Texas Instruments; PartNumber: TPS65100RGERG4; Iout(Max)(A): 0.02; Iq(Typ)(mA): 0.7; Rating: Catalog; SubFamily: LCD/OLED Display Bias Solutions; Switching Frequency(Typ)(kHz): 1600; Topology: Boost, Inverting Buck/Boost; Vin(Max)(V): 5.8; Vin(Min)(V): 2.7; DatasheetVersion: SLVS496C; PackageVersion: 4204104/G; PackageReference: RGE24-2450X2450TP; PackageDescription: 24-Pin Plastic Flat Pack, Body 4 x 4 mm, 0.5 mm Pitch; Supplier 1: Digi-Key; Supplier Part Number 1: TPS65100RGERG4-ND; Supplier 2: Mouser; Supplier Part Number 2: 595-TPS65100RGERG4; Eco-Plan: Green (RoHS & no Sb/Br); Mounting Technology: Surface Mount; Code_JEDEC: MO-220; ComponentLink1Description: Manufacturer URL; ComponentLink1URL: http://www.ti.com/; ComponentLink2Description: Datasheet; ComponentLink2URL: http://www.ti.com/general/docs/lit/getliterature.tsp?genericPartNumber=TPS65100&fileType=pdf; ComponentLink3Description: Package Specification; ComponentLink3URL: http://www.ti.com/litv/pdf/mpqf124f
footprint TI-RGE24-2450X2450TP_V (QFN, 24-Leads, Body 4x4mm, Pitch 0.5mm, Thermal Pad 2.45x2.45mm)
pins: 1 COMP "Compensation pin for the main boost converter. A small capacitor is connected to this pin.", 2 ENR (in) "Enable pin of the linear regulator controller. This pin should be terminated and not be left floating. Logic high enables the regulator and a logic low puts the regulator in shutdown.", 3 EN (in) "Enable pin of the device.This pin should be terminated and be left floating.A logic high enables the device and a logic low shuts down the device.", 4 FB1 (in) "Feedback pin of the boost converter", 5 FB4 (in) "Feedback pin the of the linear regulator controller .The linear regulator controller is set to a fixed output voltage of 3.3 V of 3 V depending on the version.", 6 BASE (out) "Base drive output for the external transistor", 7 VIN (power) "Input voltage pin of the device.", 8 SW (power) "Switch pin of the boost converter", 9 SW (power) "Switch pin of the boost converter", 10 PGND (power) "Power ground", 11 PGND (power) "Power ground", 12 SUP (power) "Supply pin of the positive, negative charge pump, boost converter, and gate drive circuit.This pin needs to be connected to the output of the main boots converter and cannot be onnected to any other voltage source.For (See Datasheet)", 13 VCOM (power) "VCOM buffer output", 14 VCOMIN (in) "Positive input terminal of the VCOM buffer.When the VCOM buffer is not used ,this terminal can be connected toGND to reduce the overall quiescent current of the IC", 15 FB3 (in) "Feedback pin of positive charge pump", 16 OUT3 (power) "Positive charge pump output", 17 C2+ "Positive terminal for the charge pump flying capacitor.If the device runs in voltage doubler mode, this pin should be left open.", 18 C2-/MODE "Negative terminal of the charge pump flying capacitor and charge pump MODE pin. If the flying capacitor is connected to this pin, the concerter operates in a voltage tripler mode.if the charge pump needs to operate in a (See Datasheet)", 19 C1+ "Positive terminal of the charge pump flying capacitor", 20 C1- "Negative terminal of the charge pump flying capacitor", 21 DRV (power) "External charge pump driver", 22 GND (power) "Ground", 23 REF (out) "Internal reference output typically 1.23 V", 24 FB2 (in) "Feedback pin of negative charge pump", 25 EP (power) "The PowerPAD or exposed thermal die needs to be connected to power ground pins (PGND)"